# Altium footprint library SAMTEC_ADM6-50-01.5-L-4-2-A-TR.PcbLib: 1 footprints
Each footprint in its own frame and in the unit in brackets; x right, y up, seen from the top. Pads: shape width x height; smd on the part's side, far side on the other; paste and mask are expansions set on the pad; w line width, h text height; cw(c..) or ccw(c..) is an arc to the next point about the centre after c.
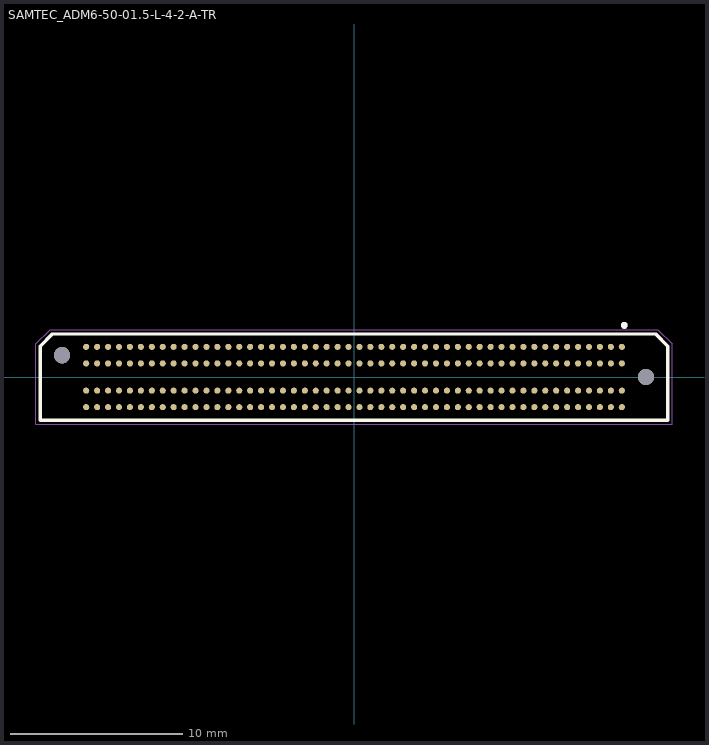
[diagram p0: the footprint, top view; thin cyan lines are the x and y axes]

## SAMTEC_ADM6-50-01.5-L-4-2-A-TR [mm]
height 4.1
pads (202):
  round 0.356 smd: A01(15.557,1.75) A02(14.922,1.75) A03(14.287,1.75) A04(13.652,1.75) A05(13.018,1.75) A06(12.383,1.75) A07(11.747,1.75) A08(11.112,1.75) A09(10.477,1.75) A10(9.842,1.75) A11(9.207,1.75) A12(8.572,1.75) A13(7.938,1.75) A14(7.302,1.75) A15(6.667,1.75) A16(6.032,1.75) A17(5.397,1.75) A18(4.763,1.75) A19(4.127,1.75) A20(3.492,1.75) A21(2.857,1.75) A22(2.222,1.75) A23(1.587,1.75) A24(0.953,1.75) A25(0.318,1.75) A26(-0.318,1.75) A27(-0.953,1.75) A28(-1.587,1.75) A29(-2.222,1.75) A30(-2.857,1.75) A31(-3.492,1.75) A32(-4.127,1.75) A33(-4.763,1.75) A34(-5.397,1.75) A35(-6.032,1.75) A36(-6.667,1.75) A37(-7.302,1.75) A38(-7.938,1.75) A39(-8.572,1.75) A40(-9.207,1.75) A41(-9.842,1.75) A42(-10.477,1.75) A43(-11.112,1.75) A44(-11.747,1.75) A45(-12.383,1.75) A46(-13.018,1.75) A47(-13.652,1.75) A48(-14.287,1.75) A49(-14.922,1.75) A50(-15.557,1.75) B01(15.557,0.79) B02(14.922,0.79) B03(14.287,0.79) B04(13.652,0.79) B05(13.018,0.79) B06(12.383,0.79) B07(11.747,0.79) B08(11.112,0.79) B09(10.477,0.79) B10(9.842,0.79) B11(9.207,0.79) B12(8.572,0.79) B13(7.938,0.79) B14(7.302,0.79) B15(6.667,0.79) B16(6.032,0.79) B17(5.397,0.79) B18(4.763,0.79) B19(4.127,0.79) B20(3.492,0.79) B21(2.857,0.79) B22(2.222,0.79) B23(1.587,0.79) B24(0.953,0.79) B25(0.318,0.79) B26(-0.318,0.79) B27(-0.953,0.79) B28(-1.587,0.79) B29(-2.222,0.79) B30(-2.857,0.79) B31(-3.492,0.79) B32(-4.127,0.79) B33(-4.763,0.79) B34(-5.397,0.79) B35(-6.032,0.79) B36(-6.667,0.79) B37(-7.302,0.79) B38(-7.938,0.79) B39(-8.572,0.79) B40(-9.207,0.79) B41(-9.842,0.79) B42(-10.477,0.79) B43(-11.112,0.79) B44(-11.747,0.79) B45(-12.383,0.79) B46(-13.018,0.79) B47(-13.652,0.79) B48(-14.287,0.79) B49(-14.922,0.79) B50(-15.557,0.79) C01(15.557,-0.79) C02(14.922,-0.79) C03(14.287,-0.79) C04(13.652,-0.79) C05(13.018,-0.79) C06(12.383,-0.79) C07(11.747,-0.79) C08(11.112,-0.79) C09(10.477,-0.79) C10(9.842,-0.79) C11(9.207,-0.79) C12(8.572,-0.79) C13(7.938,-0.79) C14(7.302,-0.79) C15(6.667,-0.79) C16(6.032,-0.79) C17(5.397,-0.79) C18(4.763,-0.79) C19(4.127,-0.79) C20(3.492,-0.79) C21(2.857,-0.79) C22(2.222,-0.79) C23(1.587,-0.79) C24(0.953,-0.79) C25(0.318,-0.79) C26(-0.318,-0.79) C27(-0.953,-0.79) C28(-1.587,-0.79) C29(-2.222,-0.79) C30(-2.857,-0.79) C31(-3.492,-0.79) C32(-4.127,-0.79) C33(-4.763,-0.79) C34(-5.397,-0.79) C35(-6.032,-0.79) C36(-6.667,-0.79) C37(-7.302,-0.79) C38(-7.938,-0.79) C39(-8.572,-0.79) C40(-9.207,-0.79) C41(-9.842,-0.79) C42(-10.477,-0.79) C43(-11.112,-0.79) C44(-11.747,-0.79) C45(-12.383,-0.79) C46(-13.018,-0.79) C47(-13.652,-0.79) C48(-14.287,-0.79) C49(-14.922,-0.79) C50(-15.557,-0.79) D01(15.557,-1.75) D02(14.922,-1.75) D03(14.287,-1.75) D04(13.652,-1.75) D05(13.018,-1.75) D06(12.383,-1.75) D07(11.747,-1.75) D08(11.112,-1.75) D09(10.477,-1.75) D10(9.842,-1.75) D11(9.207,-1.75) D12(8.572,-1.75) D13(7.938,-1.75) D14(7.302,-1.75) D15(6.667,-1.75) D16(6.032,-1.75) D17(5.397,-1.75) D18(4.763,-1.75) D19(4.127,-1.75) D20(3.492,-1.75) D21(2.857,-1.75) D22(2.222,-1.75) D23(1.587,-1.75) D24(0.953,-1.75) D25(0.318,-1.75) D26(-0.318,-1.75) D27(-0.953,-1.75) D28(-1.587,-1.75) D29(-2.222,-1.75) D30(-2.857,-1.75) D31(-3.492,-1.75) D32(-4.127,-1.75) D33(-4.763,-1.75) D34(-5.397,-1.75) D35(-6.032,-1.75) D36(-6.667,-1.75) D37(-7.302,-1.75) D38(-7.938,-1.75) D39(-8.572,-1.75) D40(-9.207,-1.75) D41(-9.842,-1.75) D42(-10.477,-1.75) D43(-11.112,-1.75) D44(-11.747,-1.75) D45(-12.383,-1.75) D46(-13.018,-1.75) D47(-13.652,-1.75) D48(-14.287,-1.75) D49(-14.922,-1.75) D50(-15.557,-1.75)
  round 0.95 hole 0.95 unplated: ""(-16.96,1.27) ""(16.96,0)
Top Overlay:
  circle w0.2: c15.7,3 r0.1
  lines w0.2: -18.235,-2.5 -18.235,1.793 -17.528,2.5 17.528,2.5 18.235,1.793 18.235,-2.5 -18.235,-2.5
Mechanical 13:
  circle w0.2: c15.7,3 r0.1
  lines w0.1: -18.235,-2.5 -18.235,1.793 -17.528,2.5 17.528,2.5 18.235,1.793 18.235,-2.5 -18.235,-2.5
Mechanical 15:
  lines w0.05: -18.485,-2.75 -18.485,1.918 -17.653,2.75 17.653,2.75 18.485,1.918 18.485,-2.75 -18.485,-2.75
3D body "ADM6-50-01.5-L-4-2-A-TR--3DModel-STEP-269445.STEP": height 4.1, standoff -0.67, extent -18.235,-2.5 18.235,2.5